# Altium schematic symbol library 运放.SchLib: 2 symbols
Pins are listed as number, name and electrical type; pins without a type are passive.

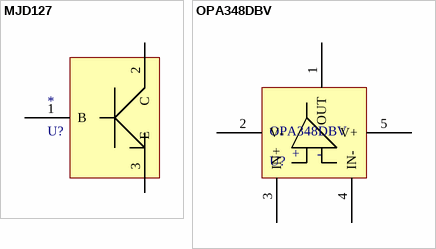
[diagram p0: symbols MJD127 to OPA348DBV]

## MJD127
designator *, comment U?
MJD127NPN
pins: 1 B, 2 C, 3 E

## OPA348DBV
designator OPA348DBV, comment U?
pins: 1 OUT, 2 V-, 3 IN+, 4 IN-, 5 V+
text: +     -